# Altium footprint library sod923_0.PcbLib: 1 footprints
Each footprint in its own frame and in the unit in brackets; x right, y up, seen from the top. Pads: shape width x height; smd on the part's side, far side on the other; paste and mask are expansions set on the pad; w line width, h text height; cw(c..) or ccw(c..) is an arc to the next point about the centre after c.
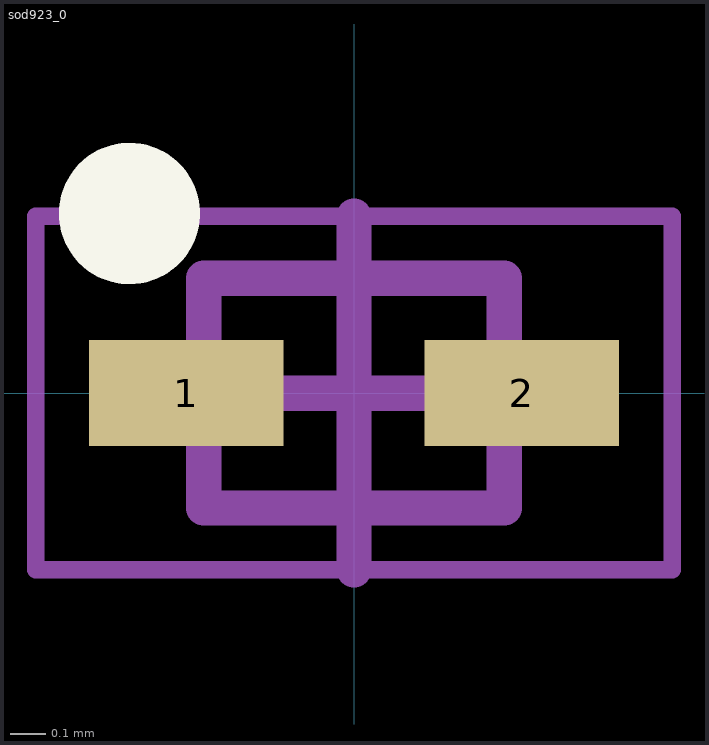
[diagram p0: the footprint, top view; thin cyan lines are the x and y axes]

## sod923_0 [mm] "SOD923, 0.60mm x 0.80mm"
height 0.4
pads (2):
  rect 0.55x0.3 smd: 1(-0.475,0) 2(0.475,0)
Top Overlay:
  circle w0.2: c-0.635,0.508 r0.1
Mechanical 13:
  lines w0.1: -0.425,-0.325 -0.425,0.325 0.425,0.325 0.425,-0.325 -0.425,-0.325
Mechanical 15:
  lines w0.05: -0.9,-0.5 -0.9,0.5 0.9,0.5 0.9,-0.5 -0.9,-0.5
  lines w0.1: -0.5,0 0.5,0 ; 0,-0.5 0,0.5
3D body: height 0.4, standoff 0, extent -0.425,-0.325 0.425,0.325